# Altium footprint library STM32_PLC.PcbLib: 129 footprints (part 7 of 9)
Each footprint in its own frame and in the unit in brackets; x right, y up, seen from the top. Pads: shape width x height; smd on the part's side, far side on the other; paste and mask are expansions set on the pad; w line width, h text height; cw(c..) or ccw(c..) is an arc to the next point about the centre after c.
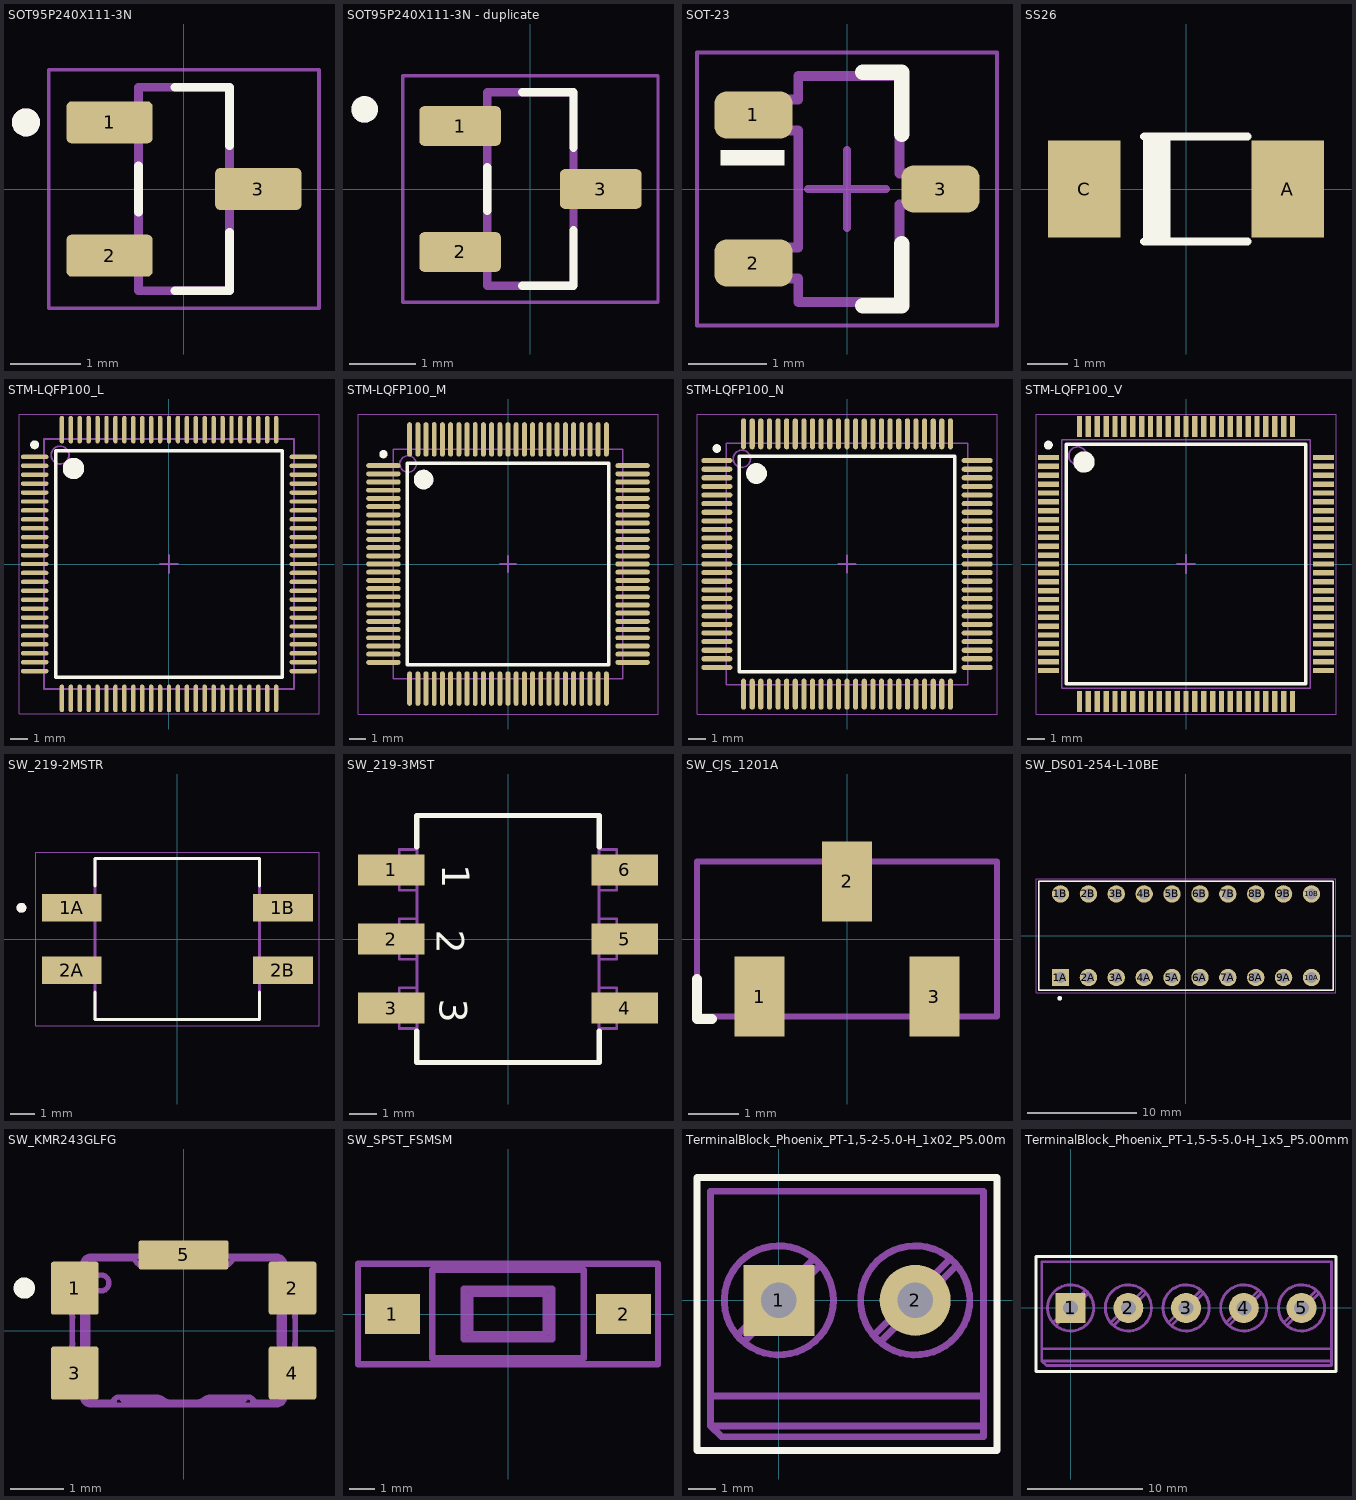
[diagram p6: the footprints below, top view; thin cyan lines are the x and y axes]

## SOT95P240X111-3N [mm]
height 1.11
pads (3):
  rrect25% 1.23x0.6 smd: 1(-1.06,0.95) 2(-1.06,-0.95) 3(1.06,0)
Top Overlay:
  circle w0.2: c-2.25,0.95 r0.1
  lines w0.127: -0.65,-0.33 -0.65,0.33 ; -0.125,-1.45 0.65,-1.45 0.65,-0.62 ; -0.125,1.45 0.65,1.45 0.65,0.62
Mechanical 13:
  circle w0.2: c-2.25,0.95 r0.1
  lines w0.127: -0.65,-1.45 0.65,-1.45 0.65,1.45 -0.65,1.45 -0.65,-1.45
Mechanical 15:
  lines w0.05: -1.925,-1.7 -1.925,1.7 1.925,1.7 1.925,-1.7 -1.925,-1.7
3D body "step_temp.STEP": height 1.11, standoff 0, extent -1.2,-1.45 1.2,1.45

## SOT95P240X111-3N - duplicate [mm]
height 1.11
pads (3):
  rrect25% 1.23x0.6 smd paste+0 mask+0.102: 1(-1.06,0.95) 2(-1.06,-0.95) 3(1.06,0)
Top Overlay:
  circle w0.2: c-2.5,1.2 r0.1
  lines w0.127: -0.65,-0.33 -0.65,0.33 ; -0.125,-1.46 0.65,-1.46 0.65,-0.62 ; -0.125,1.46 0.65,1.46 0.65,0.62
Mechanical 13:
  circle w0.2: c-2.5,1.2 r0.1
  lines w0.127: -0.65,-1.46 0.65,-1.46 0.65,1.46 -0.65,1.46 -0.65,-1.46
Mechanical 15:
  lines w0.05: -1.925,-1.71 -1.925,1.71 1.925,1.71 1.925,-1.71 -1.925,-1.71
3D body "step_temp.STEP": height 2, standoff -0.6, extent 0,-1.2 3.04,0.1

## SOT-23 [mm] "SOT23, 3-Leads, Body 2.9x1.3mm, Pitch 0.95mm, Lead Span 2.5mm, IPC Medium Density"
height 1.1
pads (3):
  rrect50% 1x0.6 smd: 1(-1.2,0.95) 2(-1.2,-0.95) 3(1.2,0)
Top Overlay:
  rectangle: -1.625,0.3 -0.8,0.5
  lines w0.2: 0.2,-1.5 0.7,-1.5 0.7,-0.7 ; 0.2,1.5 0.7,1.5 0.7,0.7
Mechanical 5:
  lines w0.127: -1.16,-1.15 -1.16,-0.75 -0.625,-0.75 -0.625,0.75 -1.16,0.75 -1.16,1.15 -0.625,1.15 -0.625,1.45 0.675,1.45 0.675,0.2 1.21,0.2 1.21,-0.2 0.675,-0.2 0.675,-1.45 -0.625,-1.45 -0.625,-1.15 -1.16,-1.15
  text ".Designator" at -0.321,0.529 h0.64
Mechanical 15:
  lines w0.05: -1.925,-1.75 1.925,-1.75 1.925,1.75 -1.925,1.75 -1.925,-1.75
  lines w0.1: -0.5,0 0.5,0 ; 0,-0.5 0,0.5
3D body "SW3dPS-sot-3p290x130ll237h100.STEP": height 1, standoff 0, extent -1.16,-1.45 1.21,1.45

## SS26 [mm]
pads (2):
  rect 1.8x2.4 smd: A(2.525,0) C(-2.525,0)
Top Overlay:
  region: -0.39,-1.225 -1.065,-1.225 -1.065,1.225 -0.39,1.225
  lines w0.203: -1.035,-1.3 1.525,-1.3 ; -1.035,1.3 1.525,1.3
3D body "step_temp.STEP": height 2.65, standoff 0, extent -2.67,-1.813 2.67,1.813

## STM-LQFP100_L [mm] "Thin QFP, 100-Leads, Body 14x14mm, Pitch 0.5mm, IPC High Density"
height 1.6
pads (100):
  oval 1.55x0.25 smd: 1(-7.525,6) 2(-7.525,5.5) 3(-7.525,5) 4(-7.525,4.5) 5(-7.525,4) 6(-7.525,3.5) 7(-7.525,3) 8(-7.525,2.5) 9(-7.525,2) 10(-7.525,1.5) 11(-7.525,1) 12(-7.525,0.5) 13(-7.525,0) 14(-7.525,-0.5) 15(-7.525,-1) 16(-7.525,-1.5) 17(-7.525,-2) 18(-7.525,-2.5) 19(-7.525,-3) 20(-7.525,-3.5) 21(-7.525,-4) 22(-7.525,-4.5) 23(-7.525,-5) 24(-7.525,-5.5) 25(-7.525,-6) 51(7.525,-6) 52(7.525,-5.5) 53(7.525,-5) 54(7.525,-4.5) 55(7.525,-4) 56(7.525,-3.5) 57(7.525,-3) 58(7.525,-2.5) 59(7.525,-2) 60(7.525,-1.5) 61(7.525,-1) 62(7.525,-0.5) 63(7.525,0) 64(7.525,0.5) 65(7.525,1) 66(7.525,1.5) 67(7.525,2) 68(7.525,2.5) 69(7.525,3) 70(7.525,3.5) 71(7.525,4) 72(7.525,4.5) 73(7.525,5) 74(7.525,5.5) 75(7.525,6)
  oval 0.25x1.55 smd: 26(-6,-7.525) 27(-5.5,-7.525) 28(-5,-7.525) 29(-4.5,-7.525) 30(-4,-7.525) 31(-3.5,-7.525) 32(-3,-7.525) 33(-2.5,-7.525) 34(-2,-7.525) 35(-1.5,-7.525) 36(-1,-7.525) 37(-0.5,-7.525) 38(0,-7.525) 39(0.5,-7.525) 40(1,-7.525) 41(1.5,-7.525) 42(2,-7.525) 43(2.5,-7.525) 44(3,-7.525) 45(3.5,-7.525) 46(4,-7.525) 47(4.5,-7.525) 48(5,-7.525) 49(5.5,-7.525) 50(6,-7.525) 76(6,7.525) 77(5.5,7.525) 78(5,7.525) 79(4.5,7.525) 80(4,7.525) 81(3.5,7.525) 82(3,7.525) 83(2.5,7.525) 84(2,7.525) 85(1.5,7.525) 86(1,7.525) 87(0.5,7.525) 88(0,7.525) 89(-0.5,7.525) 90(-1,7.525) 91(-1.5,7.525) 92(-2,7.525) 93(-2.5,7.525) 94(-3,7.525) 95(-3.5,7.525) 96(-4,7.525) 97(-4.5,7.525) 98(-5,7.525) 99(-5.5,7.525) 100(-6,7.525)
Top Overlay:
  circle w0.25: c-7.525,6.675 r0.125
  circle w0.6: c-5.35,5.35 r0.3
  lines w0.2: -6.35,-6.35 -6.35,6.35 6.35,6.35 6.35,-6.35 -6.35,-6.35
Mechanical 13:
  circle w0.1: c-6.1,6.1 r0.5
  lines w0.1: -7,-7 -7,7 7,7 7,-7 -7,-7
Mechanical 15:
  lines w0.05: -8.4,-8.4 -8.4,8.4 8.4,8.4 8.4,-8.4 -8.4,-8.4
  lines w0.1: -0.5,0 0.5,0 ; 0,-0.5 0,0.5
3D body: height 1.6, standoff 0.05, extent -7,-7 7,7

## STM-LQFP100_M [mm] "Thin QFP, 100-Leads, Body 14x14mm, Pitch 0.5mm, IPC Low Density"
height 1.6
pads (100):
  oval 2.1x0.3 smd: 1(-7.6,6) 2(-7.6,5.5) 3(-7.6,5) 4(-7.6,4.5) 5(-7.6,4) 6(-7.6,3.5) 7(-7.6,3) 8(-7.6,2.5) 9(-7.6,2) 10(-7.6,1.5) 11(-7.6,1) 12(-7.6,0.5) 13(-7.6,0) 14(-7.6,-0.5) 15(-7.6,-1) 16(-7.6,-1.5) 17(-7.6,-2) 18(-7.6,-2.5) 19(-7.6,-3) 20(-7.6,-3.5) 21(-7.6,-4) 22(-7.6,-4.5) 23(-7.6,-5) 24(-7.6,-5.5) 25(-7.6,-6) 51(7.6,-6) 52(7.6,-5.5) 53(7.6,-5) 54(7.6,-4.5) 55(7.6,-4) 56(7.6,-3.5) 57(7.6,-3) 58(7.6,-2.5) 59(7.6,-2) 60(7.6,-1.5) 61(7.6,-1) 62(7.6,-0.5) 63(7.6,0) 64(7.6,0.5) 65(7.6,1) 66(7.6,1.5) 67(7.6,2) 68(7.6,2.5) 69(7.6,3) 70(7.6,3.5) 71(7.6,4) 72(7.6,4.5) 73(7.6,5) 74(7.6,5.5) 75(7.6,6)
  oval 0.3x2.1 smd: 26(-6,-7.6) 27(-5.5,-7.6) 28(-5,-7.6) 29(-4.5,-7.6) 30(-4,-7.6) 31(-3.5,-7.6) 32(-3,-7.6) 33(-2.5,-7.6) 34(-2,-7.6) 35(-1.5,-7.6) 36(-1,-7.6) 37(-0.5,-7.6) 38(0,-7.6) 39(0.5,-7.6) 40(1,-7.6) 41(1.5,-7.6) 42(2,-7.6) 43(2.5,-7.6) 44(3,-7.6) 45(3.5,-7.6) 46(4,-7.6) 47(4.5,-7.6) 48(5,-7.6) 49(5.5,-7.6) 50(6,-7.6) 76(6,7.6) 77(5.5,7.6) 78(5,7.6) 79(4.5,7.6) 80(4,7.6) 81(3.5,7.6) 82(3,7.6) 83(2.5,7.6) 84(2,7.6) 85(1.5,7.6) 86(1,7.6) 87(0.5,7.6) 88(0,7.6) 89(-0.5,7.6) 90(-1,7.6) 91(-1.5,7.6) 92(-2,7.6) 93(-2.5,7.6) 94(-3,7.6) 95(-3.5,7.6) 96(-4,7.6) 97(-4.5,7.6) 98(-5,7.6) 99(-5.5,7.6) 100(-6,7.6)
Top Overlay:
  circle w0.25: c-7.6,6.7 r0.125
  circle w0.6: c-5.15,5.15 r0.3
  lines w0.2: -6.15,-6.15 -6.15,6.15 6.15,6.15 6.15,-6.15 -6.15,-6.15
Mechanical 13:
  circle w0.1: c-6.1,6.1 r0.5
  lines w0.1: -7,-7 -7,7 7,7 7,-7 -7,-7
Mechanical 15:
  lines w0.05: -9.15,-9.15 -9.15,9.15 9.15,9.15 9.15,-9.15 -9.15,-9.15
  lines w0.1: -0.5,0 0.5,0 ; 0,-0.5 0,0.5
3D body: height 1.6, standoff 0.05, extent -7,-7 7,7

## STM-LQFP100_N [mm] "Thin QFP, 100-Leads, Body 14x14mm, Pitch 0.5mm, IPC Medium Density"
height 1.6
pads (100):
  oval 1.8x0.3 smd: 1(-7.55,6) 2(-7.55,5.5) 3(-7.55,5) 4(-7.55,4.5) 5(-7.55,4) 6(-7.55,3.5) 7(-7.55,3) 8(-7.55,2.5) 9(-7.55,2) 10(-7.55,1.5) 11(-7.55,1) 12(-7.55,0.5) 13(-7.55,0) 14(-7.55,-0.5) 15(-7.55,-1) 16(-7.55,-1.5) 17(-7.55,-2) 18(-7.55,-2.5) 19(-7.55,-3) 20(-7.55,-3.5) 21(-7.55,-4) 22(-7.55,-4.5) 23(-7.55,-5) 24(-7.55,-5.5) 25(-7.55,-6) 51(7.55,-6) 52(7.55,-5.5) 53(7.55,-5) 54(7.55,-4.5) 55(7.55,-4) 56(7.55,-3.5) 57(7.55,-3) 58(7.55,-2.5) 59(7.55,-2) 60(7.55,-1.5) 61(7.55,-1) 62(7.55,-0.5) 63(7.55,0) 64(7.55,0.5) 65(7.55,1) 66(7.55,1.5) 67(7.55,2) 68(7.55,2.5) 69(7.55,3) 70(7.55,3.5) 71(7.55,4) 72(7.55,4.5) 73(7.55,5) 74(7.55,5.5) 75(7.55,6)
  oval 0.3x1.8 smd: 26(-6,-7.55) 27(-5.5,-7.55) 28(-5,-7.55) 29(-4.5,-7.55) 30(-4,-7.55) 31(-3.5,-7.55) 32(-3,-7.55) 33(-2.5,-7.55) 34(-2,-7.55) 35(-1.5,-7.55) 36(-1,-7.55) 37(-0.5,-7.55) 38(0,-7.55) 39(0.5,-7.55) 40(1,-7.55) 41(1.5,-7.55) 42(2,-7.55) 43(2.5,-7.55) 44(3,-7.55) 45(3.5,-7.55) 46(4,-7.55) 47(4.5,-7.55) 48(5,-7.55) 49(5.5,-7.55) 50(6,-7.55) 76(6,7.55) 77(5.5,7.55) 78(5,7.55) 79(4.5,7.55) 80(4,7.55) 81(3.5,7.55) 82(3,7.55) 83(2.5,7.55) 84(2,7.55) 85(1.5,7.55) 86(1,7.55) 87(0.5,7.55) 88(0,7.55) 89(-0.5,7.55) 90(-1,7.55) 91(-1.5,7.55) 92(-2,7.55) 93(-2.5,7.55) 94(-3,7.55) 95(-3.5,7.55) 96(-4,7.55) 97(-4.5,7.55) 98(-5,7.55) 99(-5.5,7.55) 100(-6,7.55)
Top Overlay:
  circle w0.25: c-7.55,6.7 r0.125
  circle w0.6: c-5.25,5.25 r0.3
  lines w0.2: -6.25,-6.25 -6.25,6.25 6.25,6.25 6.25,-6.25 -6.25,-6.25
Mechanical 13:
  circle w0.1: c-6.1,6.1 r0.5
  lines w0.1: -7,-7 -7,7 7,7 7,-7 -7,-7
Mechanical 15:
  lines w0.05: -8.7,-8.7 -8.7,8.7 8.7,8.7 8.7,-8.7 -8.7,-8.7
  lines w0.1: -0.5,0 0.5,0 ; 0,-0.5 0,0.5
3D body: height 1.6, standoff 0.05, extent -7,-7 7,7

## STM-LQFP100_V [mm] "Thin QFP, 100-Leads, Body 14x14mm, Pitch 0.5mm, ST Recommended"
height 1.6
pads (100):
  rect 1.2x0.3 smd: 1(-7.75,6) 2(-7.75,5.5) 3(-7.75,5) 4(-7.75,4.5) 5(-7.75,4) 6(-7.75,3.5) 7(-7.75,3) 8(-7.75,2.5) 9(-7.75,2) 10(-7.75,1.5) 11(-7.75,1) 12(-7.75,0.5) 13(-7.75,0) 14(-7.75,-0.5) 15(-7.75,-1) 16(-7.75,-1.5) 17(-7.75,-2) 18(-7.75,-2.5) 19(-7.75,-3) 20(-7.75,-3.5) 21(-7.75,-4) 22(-7.75,-4.5) 23(-7.75,-5) 24(-7.75,-5.5) 25(-7.75,-6) 51(7.75,-6) 52(7.75,-5.5) 53(7.75,-5) 54(7.75,-4.5) 55(7.75,-4) 56(7.75,-3.5) 57(7.75,-3) 58(7.75,-2.5) 59(7.75,-2) 60(7.75,-1.5) 61(7.75,-1) 62(7.75,-0.5) 63(7.75,0) 64(7.75,0.5) 65(7.75,1) 66(7.75,1.5) 67(7.75,2) 68(7.75,2.5) 69(7.75,3) 70(7.75,3.5) 71(7.75,4) 72(7.75,4.5) 73(7.75,5) 74(7.75,5.5) 75(7.75,6)
  rect 0.3x1.2 smd: 26(-6,-7.75) 27(-5.5,-7.75) 28(-5,-7.75) 29(-4.5,-7.75) 30(-4,-7.75) 31(-3.5,-7.75) 32(-3,-7.75) 33(-2.5,-7.75) 34(-2,-7.75) 35(-1.5,-7.75) 36(-1,-7.75) 37(-0.5,-7.75) 38(0,-7.75) 39(0.5,-7.75) 40(1,-7.75) 41(1.5,-7.75) 42(2,-7.75) 43(2.5,-7.75) 44(3,-7.75) 45(3.5,-7.75) 46(4,-7.75) 47(4.5,-7.75) 48(5,-7.75) 49(5.5,-7.75) 50(6,-7.75) 76(6,7.75) 77(5.5,7.75) 78(5,7.75) 79(4.5,7.75) 80(4,7.75) 81(3.5,7.75) 82(3,7.75) 83(2.5,7.75) 84(2,7.75) 85(1.5,7.75) 86(1,7.75) 87(0.5,7.75) 88(0,7.75) 89(-0.5,7.75) 90(-1,7.75) 91(-1.5,7.75) 92(-2,7.75) 93(-2.5,7.75) 94(-3,7.75) 95(-3.5,7.75) 96(-4,7.75) 97(-4.5,7.75) 98(-5,7.75) 99(-5.5,7.75) 100(-6,7.75)
Top Overlay:
  circle w0.6: c-5.75,5.75 r0.3
  circle w0.25: c-7.75,6.7 r0.125
  lines w0.2: -6.75,-6.75 6.75,-6.75 6.75,6.75 -6.75,6.75 -6.75,-6.75
Mechanical 13:
  circle w0.1: c-6.1,6.1 r0.5
  lines w0.1: -7,-7 7,-7 7,7 -7,7 -7,-7
Mechanical 15:
  lines w0.05: -8.45,-8.45 8.45,-8.45 8.45,8.45 -8.45,8.45 -8.45,-8.45
  lines w0.1: -0.5,0 0.5,0 ; 0,-0.5 0,0.5
3D body: height 1.6, standoff 0.05, extent -7,-7 7,7

## SW_219-2MSTR [mm]
height 3.85
pads (4):
  rect 2.44x1.13 smd: 1A(-4.3,1.27) 1B(4.3,1.27) 2A(-4.3,-1.27) 2B(4.3,-1.27)
Top Overlay:
  circle w0.2: c-6.35,1.27 r0.1
  lines w0.127: -3.35,-2.155 -3.35,-3.275 3.35,-3.275 3.35,-2.155 ; -3.35,2.155 -3.35,3.275 3.35,3.275 3.35,2.155
Mechanical 13:
  circle w0.2: c-6.35,1.27 r0.1
  lines w0.127: -3.35,-3.275 3.35,-3.275 3.35,3.275 -3.35,3.275 -3.35,-3.275
Mechanical 15:
  lines w0.05: -5.77,-3.525 -5.77,3.525 5.77,3.525 5.77,-3.525 -5.77,-3.525
3D body "step_temp.STEP": height 4.58, standoff 0, extent -4.955,-3.275 4.955,3.275

## SW_219-3MST [mm] "SMD, 6-Leads, Body 6.7x9.09mm, Pitch 2.54mm"
height 4.23
pads (6):
  rect 2.44x1.13 smd: 1(-4.3,2.54) 2(-4.3,0) 3(-4.3,-2.54) 4(4.3,-2.54) 5(4.3,0) 6(4.3,2.54)
Top Overlay:
  lines w0.2: -3.35,-3.4 -3.35,-4.545 3.35,-4.545 3.35,-3.4 ; -3.35,3.4 -3.35,4.545 3.35,4.545 3.35,3.4
  text "1" at -2.422,2.758 h1.02
  text "2" at -2.63,0.336 h1.02
  text "3" at -2.504,-2.204 h1.02
Mechanical 5:
  lines w0.1: -4,-2.815 -4.955,-2.815 -4.955,-2.265 -4,-2.265 ; -4,-0.275 -4.955,-0.275 -4.955,0.275 -4,0.275 ; -4,2.265 -4.955,2.265 -4.955,2.815 -4,2.815 ; -3.35,-3.29 -3.8,-3.29 -4,-3.29 -4,-1.79 -3.8,-1.79 -3.35,-1.79 ; -3.35,-0.75 -3.8,-0.75 -4,-0.75 -4,0.75 -3.8,0.75 -3.35,0.75 ; -3.35,1.79 -3.8,1.79 -4,1.79 -4,3.29 -3.8,3.29 -3.35,3.29 ; 3.35,-3.29 3.8,-3.29 4,-3.29 4,-1.79 3.8,-1.79 3.35,-1.79 ; 3.35,-0.75 3.8,-0.75 4,-0.75 4,0.75 3.8,0.75 3.35,0.75 ; 3.35,1.79 3.8,1.79 4,1.79 4,3.29 3.8,3.29 3.35,3.29 ; 4,-2.815 4.955,-2.815 4.955,-2.265 4,-2.265 ; 4,-0.275 4.955,-0.275 4.955,0.275 4,0.275 ; 4,2.265 4.955,2.265 4.955,2.815 4,2.815 ; -3.35,-4.545 -3.35,4.545 3.35,4.545 3.35,-3.545 3.35,-4.545 -3.35,-4.545
  text ".Designator" at -0.52,1.29 h1.85
  text "3" at -2.504,-2.204 h1.02
  text "2" at -2.63,0.336 h1.02
  text "1" at -2.422,2.758 h1.02
3D body: height 4.3, standoff 0, extent -4.955,-4.545 4.955,4.545

## SW_CJS_1201A [mm] "Copal- Electronics"
height 2.5
pads (3):
  rect 1x1.6 smd paste+0 mask+0.05: 1(-1.75,-1.15) 2(0,1.15) 3(1.75,-1.15)
Top Overlay:
  lines w0.2: -3,-0.8 -3,-1.6 -2.7,-1.6
Mechanical 5:
  lines w0.127: -3,-1.55 3,-1.55 3,1.55 -3,1.55 -3,-1.55
  text ".Designator" at -2.25,-0.25 h1.02
3D body: height 2.51, standoff 1, extent -1.5,-0.5 1.5,0.5
3D body: height 2.5, standoff 0, extent -2.999,-1.549 2.999,1.549

## SW_DS01-254-L-10BE [mm]
height 7
pads (20):
  rect 1.58x1.58 / inner round 1.58 / far side rect 1.58x1.58 hole 1: 1A(-11.43,-3.81)
  round 1.58 hole 1: 1B(-11.43,3.81) 2A(-8.89,-3.81) 2B(-8.89,3.81) 3A(-6.35,-3.81) 3B(-6.35,3.81) 4A(-3.81,-3.81) 4B(-3.81,3.81) 5A(-1.27,-3.81) 5B(-1.27,3.81) 6A(1.27,-3.81) 6B(1.27,3.81) 7A(3.81,-3.81) 7B(3.81,3.81) 8A(6.35,-3.81) 8B(6.35,3.81) 9A(8.89,-3.81) 9B(8.89,3.81) 10A(11.43,-3.81) 10B(11.43,3.81)
Top Overlay:
  circle w0.2: c-11.5,-5.7 r0.1
  lines w0.127: -13.41,-4.95 13.41,-4.95 13.41,4.95 -13.41,4.95 -13.41,-4.95
Mechanical 13:
  circle w0.2: c-11.5,-5.7 r0.1
  lines w0.127: -13.41,-4.95 13.41,-4.95 13.41,4.95 -13.41,4.95 -13.41,-4.95
Mechanical 15:
  lines w0.05: -13.66,-5.2 13.66,-5.2 13.66,5.2 -13.66,5.2 -13.66,-5.2
3D body "step_temp.STEP": height 5.18, standoff -5.18, extent -13.41,-4.947 13.41,4.953

## SW_KMR243GLFG [mm] "SMD, 5-Leads, Body 4.2x2.8mm"
height 1.9
pads (5):
  rrect11% 0.9x1 smd: 1(-2.05,0.8) 2(2.05,0.8) 3(-2.05,-0.8) 4(2.05,-0.8)
  rrect18% 1.7x0.55 smd: 5(0,1.425)
Top Overlay:
  circle w0.2: c-3,0.8 r0.1
Mechanical 5:
  drawing of 4459 lines, arcs and shapes, not listed
  text ".Designator" at 0.855,0.117 h1
3D body: height 1.92, standoff -0.02, extent -2.3,-1.4 2.3,1.4

## SW_SPST_FSMSM [mm]
pads (2):
  rect 2.18x1.6 smd: 1(-4.59,0) 2(4.59,0)
Mechanical 4:
  lines w0.254: -5.95,-2 5.95,-2 5.95,2 -5.95,2 -5.95,-2
Mechanical 6:
  lines w0.254: -3,-1.75 3,-1.75 3,1.75 -3,1.75 -3,-1.75 ; -1.75,-1 1.75,-1 1.75,1 -1.75,1 -1.75,-1 ; -1.5,-0.8 1.5,-0.8 1.5,0.8 -1.5,0.8 -1.5,-0.8
  text "'.Designator'" at -1.439,2.202 h1
3D body "SW_SPST_FSMSM.step": height 2, standoff 0, extent -4.5,-1.722 4.5,1.778

## TerminalBlock_Phoenix_PT-1,5-2-5.0-H_1x02_P5.00mm_Horizontal [mm]
pads (2):
  rect 2.6x2.6 hole 1.3: 1(0,0)
  round 2.6 hole 1.3: 2(5,0)
Top Overlay:
  lines w0.254: -3,-5.5 8,-5.5 8,4.5 -3,4.5 -3,-5.5
Mechanical 6:
  circle w0.254: c0,0 r2
  circle w0.254: c5,0 r2
  lines w0.254: -2.5,-3.5 7.5,-3.5 ; -1.517,-1.273 1.273,1.517 ; -1.273,-1.517 1.517,1.273 ; 3.484,-1.273 6.273,1.517 ; 3.728,-1.517 6.517,1.273 ; 7.5,-4.6 -2.5,-4.6 ; -2.5,-4.6 -2.5,4 7.5,4 7.5,-5 -2.1,-5 -2.5,-4.6
  text "'.Designator'" at 1.061,-3.298 h1
3D body "TerminalBlock_Phoenix_PT-1,5-2-5.0-H_1x02_P5.00mm_Horizontal.step": height 11.4, standoff -3.6, extent -2.5,-5 8.07,4

## TerminalBlock_Phoenix_PT-1,5-5-5.0-H_1x5_P5.00mm_Horizontal [mm]
pads (5):
  rect 2.6x2.6 hole 1.3: 1(0,0)
  round 2.6 hole 1.3: 2(5,0) 3(10,0) 4(15,0) 5(20,0)
Top Overlay:
  lines w0.254: -3,-5.5 22.987,-5.5 22.987,4.445 -3,4.445 -3,-5.5
Mechanical 6:
  circle w0.254: c20,0 r2
  circle w0.254: c15,0 r2
  circle w0.254: c10,0 r2
  circle w0.254: c5,0 r2
  circle w0.254: c0,0 r2
  lines w0.254: -2.5,-3.5 22.606,-3.535 ; -1.517,-1.273 1.273,1.517 ; -1.273,-1.517 1.517,1.273 ; 3.484,-1.273 6.273,1.517 ; 3.728,-1.517 6.517,1.273 ; 8.484,-1.273 11.273,1.517 ; 8.728,-1.517 11.517,1.273 ; 13.484,-1.273 16.273,1.517 ; 13.728,-1.517 16.517,1.273 ; 18.484,-1.273 21.273,1.517 ; 18.728,-1.517 21.517,1.273 ; 22.606,-4.6 -2.5,-4.6 ; -2.5,-4.6 -2.1,-5 22.606,-5 22.606,-2.75 22.606,1.75 22.606,4 -2.5,4 -2.5,-4.6
  text "'.Designator'" at 8.763,-3.048 h1
3D body "TerminalBlock_Phoenix_PT-1,5-5-5.0-H_1x05_P5.00mm_Horizontal.step": height 11.4, standoff -3.6, extent -2.54,-4.936 23.03,4.064